# EAGLE library part APDS-9960 (library esbd-chips)
APDS-9960 Avago Technologies Digital Proximity, Ambient Light, RGB and Gesture Sensor
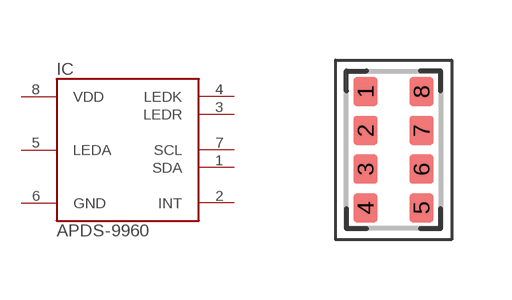
[diagram p16: symbol with the pads of APDS-9960_3.94X2.36MM; footprint APDS-9960_3.94X2.36MM]

Designator prefix IC

## APDS-9960  [APDS-9960_3.94X2.36MM]
1  SDA  out
2  INT  out
3  LEDR  pwr
4  LEDK  pwr
5  LEDA  pwr
6  GND  pwr
7  SCL  out
8  VDD  pwr

## Footprint APDS-9960_3.94X2.36MM (pad centres in mm)
https://docs.broadcom.com/doc/AV02-4191EN
smd 0.6 x 0.72: 1 -0.7,1.455; 2 -0.7,0.485; 3 -0.7,-0.485; 4 -0.7,-1.455; 5 0.7,-1.455; 6 0.7,-0.485; 7 0.7,0.485; 8 0.7,1.455